# EAGLE library part DSPIC33FJ128GP708 (library microchip_dspic)
TQFP TQFP-80 TQFP80 0.5mm PT dsPIC dsPIC33 dsPIC33F dsPIC33FJ64GP708 dsPIC33FJ128GP708
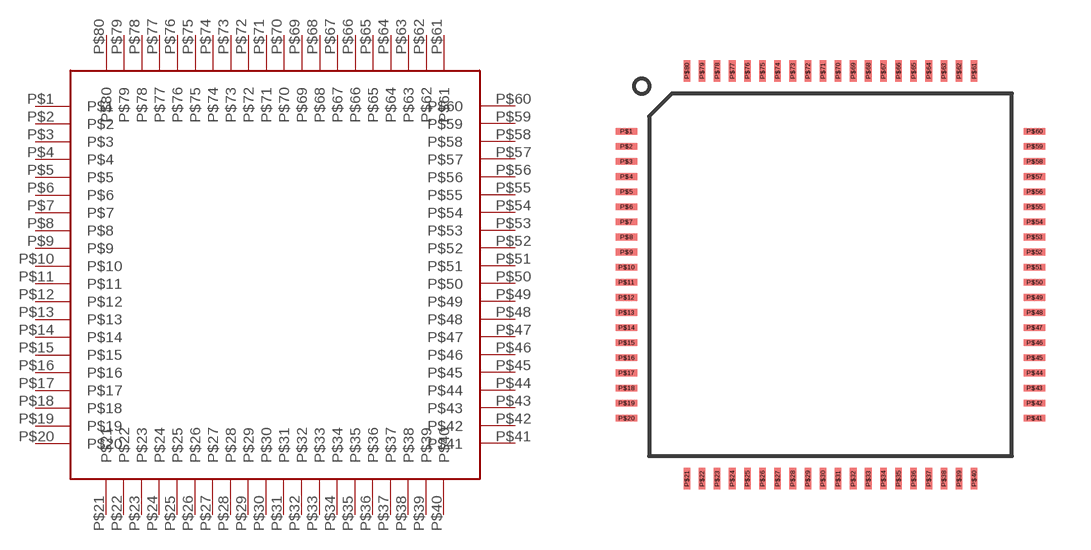
[diagram p3: symbol with the pads of TQFP-80_PT_0.5MM; footprint TQFP-80_PT_0.5MM]

Designator prefix -

## DSPIC33FJ128GP708  [TQFP-80_PT_0.5MM]
P$1  P$1
P$2  P$2
P$3  P$3
P$4  P$4
P$5  P$5
P$6  P$6
P$7  P$7
P$8  P$8
P$9  P$9
P$10  P$10
P$11  P$11
P$12  P$12
P$13  P$13
P$14  P$14
P$15  P$15
P$16  P$16
P$17  P$17
P$18  P$18
P$19  P$19
P$20  P$20
P$21  P$21
P$22  P$22
P$23  P$23
P$24  P$24
P$25  P$25
P$26  P$26
P$27  P$27
P$28  P$28
P$29  P$29
P$30  P$30
P$31  P$31
P$32  P$32
P$33  P$33
P$34  P$34
P$35  P$35
P$36  P$36
P$37  P$37
P$38  P$38
P$39  P$39
P$40  P$40
P$41  P$41
P$42  P$42
P$43  P$43
P$44  P$44
P$45  P$45
P$46  P$46
P$47  P$47
P$48  P$48
P$49  P$49
P$50  P$50
P$51  P$51
P$52  P$52
P$53  P$53
P$54  P$54
P$55  P$55
P$56  P$56
P$57  P$57
P$58  P$58
P$59  P$59
P$60  P$60
P$61  P$61
P$62  P$62
P$63  P$63
P$64  P$64
P$65  P$65
P$66  P$66
P$67  P$67
P$68  P$68
P$69  P$69
P$70  P$70
P$71  P$71
P$72  P$72
P$73  P$73
P$74  P$74
P$75  P$75
P$76  P$76
P$77  P$77
P$78  P$78
P$79  P$79
P$80  P$80

## Footprint TQFP-80_PT_0.5MM (pad centres in mm)
TQFP-80 PT 0.5mm 12x12mm
smd 0.7 x 0.22: P$1 -0.75,10.75; P$2 -0.75,10.25; P$3 -0.75,9.75; P$4 -0.75,9.25; P$5 -0.75,8.75; P$6 -0.75,8.25; P$7 -0.75,7.75; P$8 -0.75,7.25; P$9 -0.75,6.75; P$10 -0.75,6.25; P$11 -0.75,5.75; P$12 -0.75,5.25; P$13 -0.75,4.75; P$14 -0.75,4.25; P$15 -0.75,3.75; P$16 -0.75,3.25; P$17 -0.75,2.75; P$18 -0.75,2.25; P$19 -0.75,1.75; P$20 -0.75,1.25; P$41 12.75,1.25; P$42 12.75,1.75; P$43 12.75,2.25; P$44 12.75,2.75; P$45 12.75,3.25; P$46 12.75,3.75; P$47 12.75,4.25; P$48 12.75,4.75; P$49 12.75,5.25; P$50 12.75,5.75; P$51 12.75,6.25; P$52 12.75,6.75; P$53 12.75,7.25; P$54 12.75,7.75; P$55 12.75,8.25; P$56 12.75,8.75; P$57 12.75,9.25; P$58 12.75,9.75; P$59 12.75,10.25; P$60 12.75,10.75
smd 0.22 x 0.7: P$21 1.25,-0.75; P$22 1.75,-0.75; P$23 2.25,-0.75; P$24 2.75,-0.75; P$25 3.25,-0.75; P$26 3.75,-0.75; P$27 4.25,-0.75; P$28 4.75,-0.75; P$29 5.25,-0.75; P$30 5.75,-0.75; P$31 6.25,-0.75; P$32 6.75,-0.75; P$33 7.25,-0.75; P$34 7.75,-0.75; P$35 8.25,-0.75; P$36 8.75,-0.75; P$37 9.25,-0.75; P$38 9.75,-0.75; P$39 10.25,-0.75; P$40 10.75,-0.75; P$61 10.75,12.75; P$62 10.25,12.75; P$63 9.75,12.75; P$64 9.25,12.75; P$65 8.75,12.75; P$66 8.25,12.75; P$67 7.75,12.75; P$68 7.25,12.75; P$69 6.75,12.75; P$70 6.25,12.75; P$71 5.75,12.75; P$72 5.25,12.75; P$73 4.75,12.75; P$74 4.25,12.75; P$75 3.75,12.75; P$76 3.25,12.75; P$77 2.75,12.75; P$78 2.25,12.75; P$79 1.75,12.75; P$80 1.25,12.75